# Altium schematic symbol library LED_GREEN.SCHLIB: 1 symbol
Pins are listed as number, name and electrical type; pins without a type are passive.

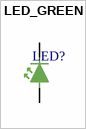
[diagram p0: symbol LED_GREEN]

## LED_GREEN
designator LED?
pins: 1 A, 2 C